# Altium footprint library Res0402ERJ.PcbLib: 3 footprints
Each footprint in its own frame and in the unit in brackets; x right, y up, seen from the top. Pads: shape width x height; smd on the part's side, far side on the other; paste and mask are expansions set on the pad; w line width, h text height; cw(c..) or ccw(c..) is an arc to the next point about the centre after c.
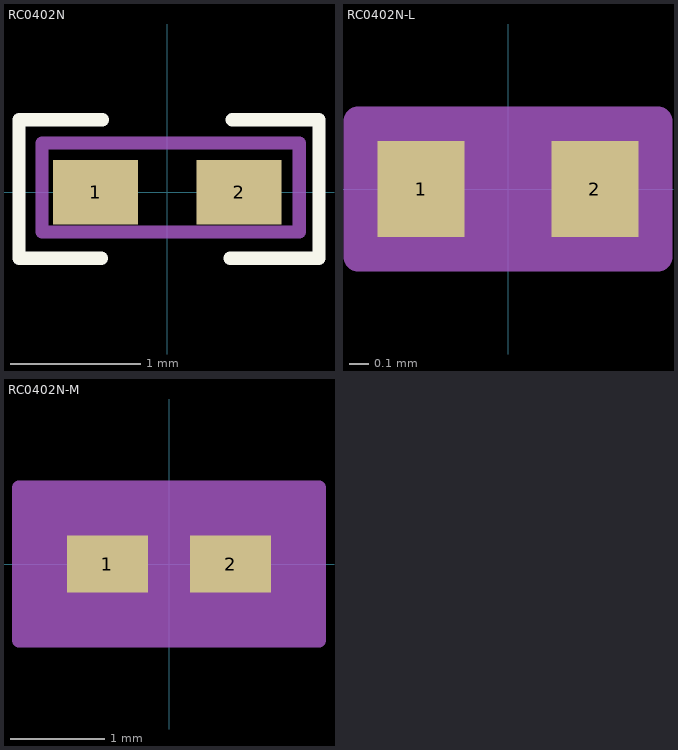
[diagram p0: the footprints below, top view; thin cyan lines are the x and y axes]

## RC0402N [mm]
pads (2):
  rect 0.656x0.5 smd: 1(-0.553,0) 2(0.553,0)
Top Overlay:
  lines w0.102: -0.508,-0.508 -1.143,-0.508 -1.143,0.559 -0.5,0.559 ; 0.483,-0.508 1.168,-0.508 1.168,0.559 0.5,0.559
Mechanical 29:
  lines w0.102: -0.965,-0.305 -0.965,0.381 1.016,0.381 1.016,-0.305 -0.965,-0.305
  text ".Designator" at -0.66,-0.127 h0.38
3D body "User Library-SMD RESISTOR-10402.STEP": height 0.36, standoff 0, extent -0.5,-0.246 0.5,0.254

## RC0402N-L [mm]
pads (2):
  rect 0.452x0.5 smd: 1(-0.451,0) 2(0.451,0)
Mechanical 15:
  region: 0.779,-0.352 -0.779,-0.352 -0.779,0.352 0.779,0.352
  lines w0.152: -0.779,-0.352 -0.779,0.352 0.779,0.352 0.779,-0.352 -0.779,-0.352

## RC0402N-M [mm]
pads (2):
  rect 0.859x0.602 smd: 1(-0.654,0) 2(0.654,0)
Mechanical 15:
  region: 1.592,-0.809 -1.592,-0.809 -1.592,0.809 1.592,0.809
  lines w0.152: -1.592,-0.809 -1.592,0.809 1.592,0.809 1.592,-0.809 -1.592,-0.809